# Altium footprint library QFN-64_FTDI.PcbLib: 1 footprints
Each footprint in its own frame and in the unit in brackets; x right, y up, seen from the top. Pads: shape width x height; smd on the part's side, far side on the other; paste and mask are expansions set on the pad; w line width, h text height; cw(c..) or ccw(c..) is an arc to the next point about the centre after c.
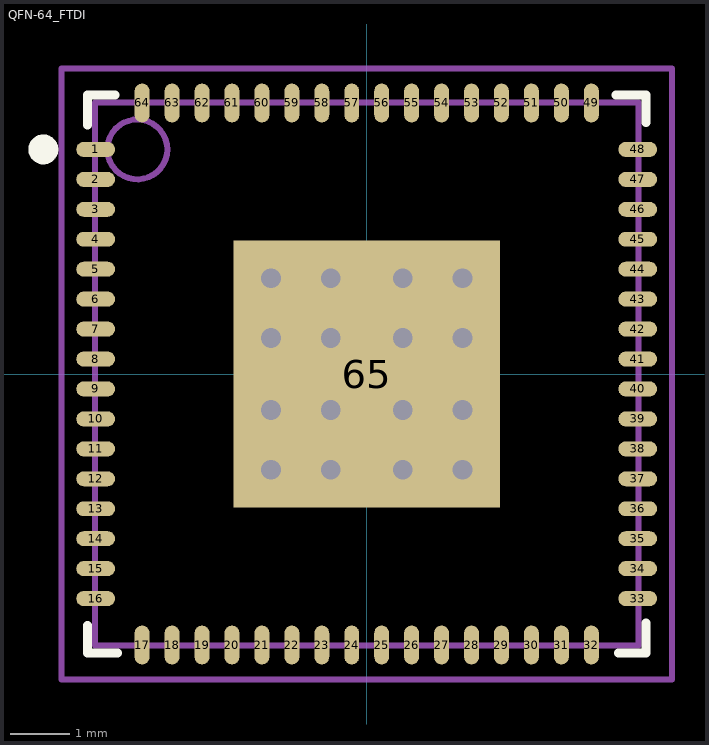
[diagram p0: the footprint, top view; thin cyan lines are the x and y axes]

## QFN-64_FTDI [mm] "64-Pin QFN 0.5 mm Pitch"
height 1
pads (65):
  oval 0.65x0.25 smd: 1(-4.525,3.75) 2(-4.525,3.25) 3(-4.525,2.75) 4(-4.525,2.25) 5(-4.525,1.75) 6(-4.525,1.25) 7(-4.525,0.75) 8(-4.525,0.25) 9(-4.525,-0.25) 10(-4.525,-0.75) 11(-4.525,-1.25) 12(-4.525,-1.75) 13(-4.525,-2.25) 14(-4.525,-2.75) 15(-4.525,-3.25) 16(-4.525,-3.75) 33(4.525,-3.75) 34(4.525,-3.25) 35(4.525,-2.75) 36(4.525,-2.25) 37(4.525,-1.75) 38(4.525,-1.25) 39(4.525,-0.75) 40(4.525,-0.25) 41(4.525,0.25) 42(4.525,0.75) 43(4.525,1.25) 44(4.525,1.75) 45(4.525,2.25) 46(4.525,2.75) 47(4.525,3.25) 48(4.525,3.75)
  oval 0.25x0.65 smd: 17(-3.75,-4.525) 18(-3.25,-4.525) 19(-2.75,-4.525) 20(-2.25,-4.525) 21(-1.75,-4.525) 22(-1.25,-4.525) 23(-0.75,-4.525) 24(-0.25,-4.525) 25(0.25,-4.525) 26(0.75,-4.525) 27(1.25,-4.525) 28(1.75,-4.525) 29(2.25,-4.525) 30(2.75,-4.525) 31(3.25,-4.525) 32(3.75,-4.525) 49(3.75,4.525) 50(3.25,4.525) 51(2.75,4.525) 52(2.25,4.525) 53(1.75,4.525) 54(1.25,4.525) 55(0.75,4.525) 56(0.25,4.525) 57(-0.25,4.525) 58(-0.75,4.525) 59(-1.25,4.525) 60(-1.75,4.525) 61(-2.25,4.525) 62(-2.75,4.525) 63(-3.25,4.525) 64(-3.75,4.525)
  rect 4.45x4.45 smd paste-2.5 mask-2.5: 65(0,0)
via 1.6,-0.6 diameter 0.66 hole 0.33
via 0.6,1.6 diameter 0.66 hole 0.33
via -0.6,1.6 diameter 0.66 hole 0.33
via 1.6,1.6 diameter 0.66 hole 0.33
via 0.6,0.6 diameter 0.66 hole 0.33
via 0.6,-1.6 diameter 0.66 hole 0.33
via 0.6,-0.6 diameter 0.66 hole 0.33
via 1.6,0.6 diameter 0.66 hole 0.33
via 1.6,-1.6 diameter 0.66 hole 0.33
via -0.6,0.6 diameter 0.66 hole 0.33
via -0.6,-1.6 diameter 0.66 hole 0.33
via -0.6,-0.6 diameter 0.66 hole 0.33
via -1.6,-0.6 diameter 0.66 hole 0.33
via -1.6,-1.6 diameter 0.66 hole 0.33
via -1.6,0.6 diameter 0.66 hole 0.33
via -1.6,1.6 diameter 0.66 hole 0.33
Top Overlay:
  circle w0.25: c-5.4,3.75 r0.125
  lines w0.15: -4.66,-4.2 -4.66,-4.66 -4.16,-4.66 ; -4.66,4.16 -4.66,4.66 -4.2,4.66 ; 4.16,4.66 4.66,4.66 4.66,4.2 ; 4.2,-4.66 4.66,-4.66 4.66,-4.16
Top Paste:
  region: -2,2 -0.2,2 -0.2,0.2 -2,0.2
  region: 0.2,2 2,2 2,0.2 0.2,0.2
  region: 0.2,-0.2 2,-0.2 2,-2 0.2,-2
  region: -2,-0.2 -0.2,-0.2 -0.2,-2 -2,-2
Top Solder:
  region: -2.1,-0.1 -0.1,-0.1 -0.1,-2.1 -2.1,-2.1
  region: 0.1,-0.1 2.1,-0.1 2.1,-2.1 0.1,-2.1
  region: 0.1,2.1 2.1,2.1 2.1,0.1 0.1,0.1
  region: -2.1,2.1 -0.1,2.1 -0.1,0.1 -2.1,0.1
Mechanical 13:
  circle w0.1: c-3.83,3.75 r0.5
  lines w0.1: -4.535,-4.535 4.535,-4.535 4.535,4.535 -4.535,4.535 -4.535,-4.535
Mechanical 15:
  lines w0.1: -0.5,0 0.5,0 ; 0,-0.5 0,0.5 ; -5.1,-5.1 5.1,-5.1 5.1,5.1 -5.1,5.1 -5.1,-5.1
3D body: height 0.92, standoff 0, extent -4.5,-4.5 4.5,4.5